# EAGLE library part C-03784 (library Aruduino-Kids-Shiled)
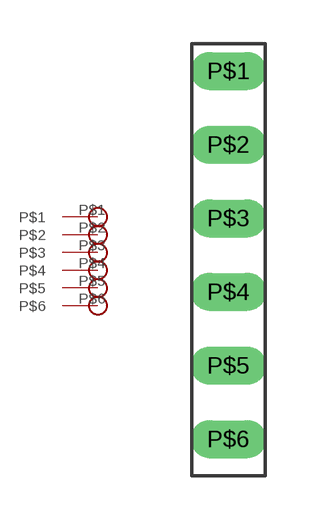
[diagram p2: symbol with the pads of SIPC-6; footprint SIPC-6]

Designator prefix -

## C-03784  [SIPC-6]
P$1  P$1
P$2  P$2
P$3  P$3
P$4  P$4
P$5  P$5
P$6  P$6

## Footprint SIPC-6 (pad centres in mm)
drill 0.8 long: P$1 0,6.35; P$2 0,3.81; P$3 0,1.27; P$4 0,-1.27; P$5 0,-3.81; P$6 0,-6.35